# Altium schematic symbol library ass.SchLib: 40 symbols
Pins are listed as number, name and electrical type; pins without a type are passive.

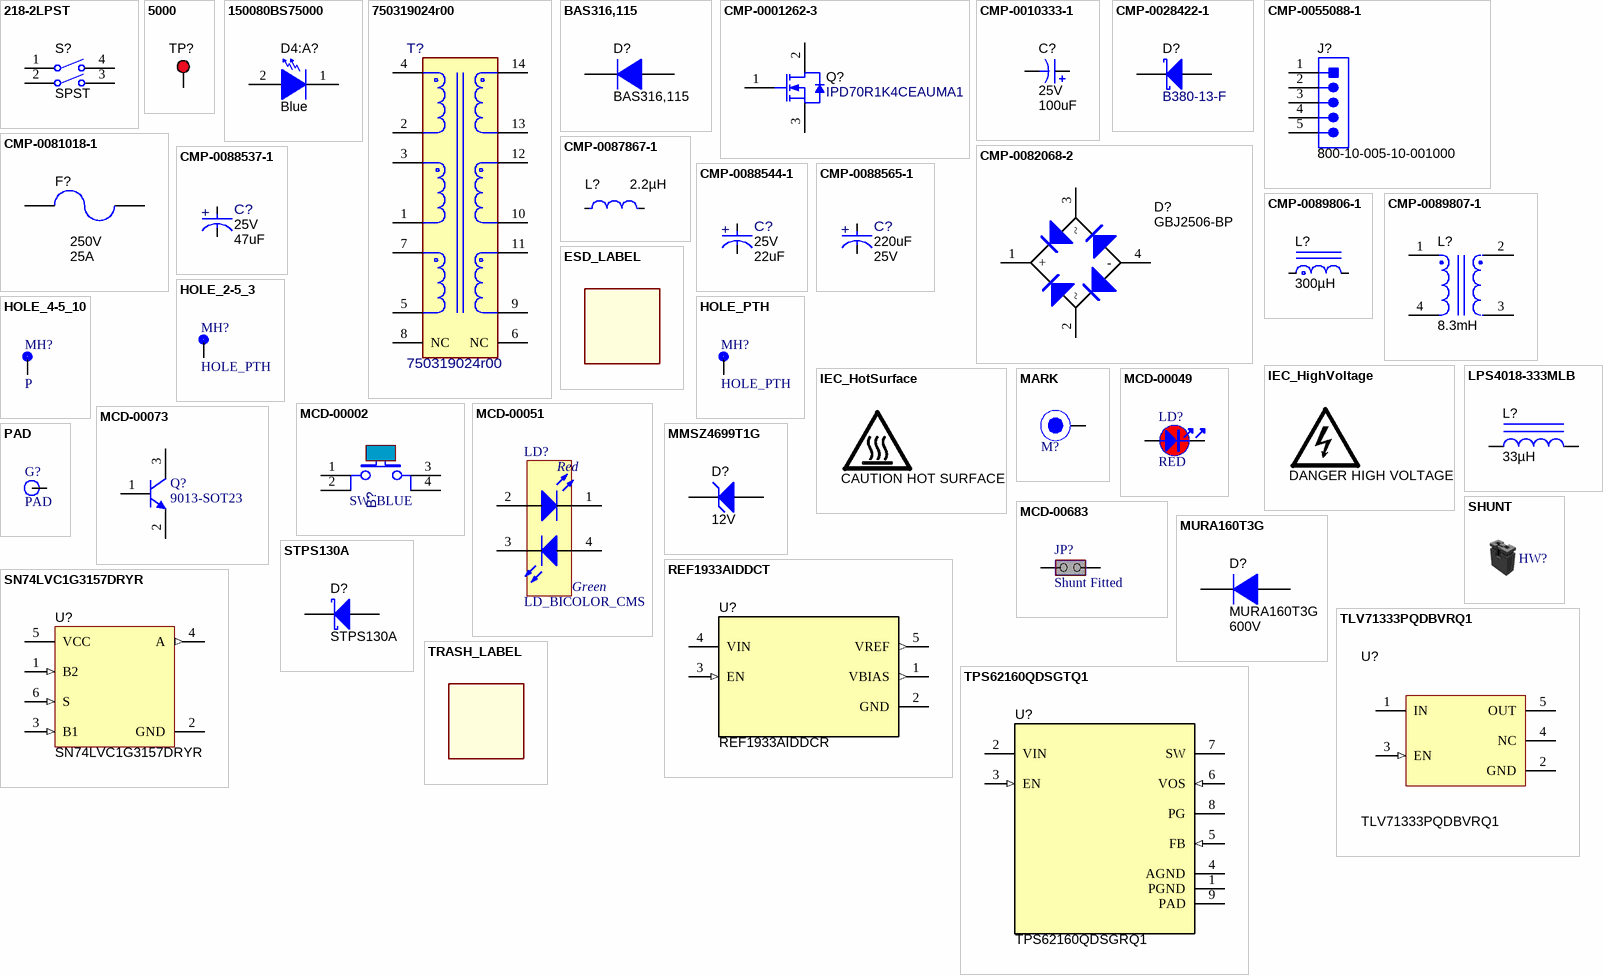
[diagram p0: symbols 218-2LPST to TRASH_LABEL]

## 218-2LPST
designator S?  Circuit: SPST  (hidden comment: 218-2LPST)
Switch, SPST, 2 Pos, 25mA, 24VDC, SMD; Manufacturer: CTS Electrocomponents; SymbolCreator: Altium; VDC_V: 24; SwitchFunction: Off-On; PositionCount: 2; CurrentRating_mA: 25; SymbolVersion: 2015-05-13; PartNumber: 218-2LPST; MountType: SMT; ComponentLink1Description: Datasheet Link; ComponentLink1URL: http://www.ctscorp.com/components/Datasheets/218.pdf; RoHS: Y; Orientation: Top Actuated; CompType: Switch; PackageReference: 3.71x5.8mm; Publisher: Texas Instruments; LatestRevisionDate: 2016-10-04; Supplier 1: Digi-Key; Supplier Part Number 1: CT2182LPST-ND; Supplier 2: Mouser; Supplier Part Number 2: 774-2182LPST
footprint SW_218-2LP
pins: 1, 2, 3, 4

## 5000
designator TP?, comment Vo  (value not drawn)
Test Point, Miniature, Red, TH; PartNumber: 5000; Manufacturer: Keystone; CompType: Test Point Loop; U/M: EA; SymbolVersion: 2008-04-04; PackageReference: Red Miniature Testpoint; RoHS: Y; MountType: TH; ComponentLink1Description: Datasheet Link; ComponentLink1URL: http://www.keyelco.com/userAssets/file/M60-2p60.pdf; Value: Red; Publisher: Texas Instruments; LatestRevisionDate: 2015-08-25; Supplier 1: Digi-Key; Supplier Part Number 1: 36-5000-ND
footprint Keystone5000
pins: 1

## 150080BS75000
designator D4:A?  value Blue  (hidden comment: 150080BS75000)
LED, Blue, SMD; Manufacturer: Wurth Elektronik; Type: InGaN; Vf_V: 3.2; Value2: 3.2V; Io_A: 0.02; Vr_V: 5; Tjmax_C: 85; Power_TotalModule: 0.105; Value1: 0.105W; Angle: 140; U/M: EA; CompType: LED; PartNumber: 150080BS75000; SymbolVersion: 2008-11-06; MountType: SMT; RoHS: Y; PackageReference: LED_0805; Color: Blue; Published: 2008-07-11; Publisher: Texas Instruments; ComponentLink1URL: http://katalog.we-online.de/led/datasheet/150080BS75000.pdf; ComponentLink1Description: Datasheet link; LatestRevisionDate: 2016-09-30; Supplier 1: Digi-Key; Supplier Part Number 1: 732-4982-1-ND; Supplier 2: Mouser; Supplier Part Number 2: 710-150080BS75000; Supplier 3: Farnell; Supplier Part Number 3: 2322075
signal-integrity model Diode
footprint WL-SMCW_Blue_0805
pins: 1 K, 2 A

## 750319024r00
designator T?
TRANSFORMER; Manufacturer: Wurth Electronics; SizeZ_mm: 25.2mm; DCR_ohm: 6.32; Rsec1_ohm: 0.094; Voltage_Isolation_Vrms: 3kV; Ind_H: 2mH; Ns1toNp: 1:1/5.67:1/6.8:1/8.1:1/10:1; Frequency_Fixed: 80kHz; AEC Qualified: No; PackageReference: PTH_TRANSFORMER; Datasheet Path: datasheets/Trans-750319024r00.pdf; RoHS: TRUE; Operating Temperature Range: -40°C to +125°C; Lead Free: Yes; helpURL: https://upverter.com/upn/revision/be9802b5c4ace36f/; PartNumber: 750319024r00
footprint FP-750319024r00_PTH_TRANSFORMER-MFG (Footprint not found)
pins: 1, 2, 3, 4, 5, 6 NC, 7, 8 NC, 9, 10, 11, 12, 13, 14

## BAS316,115
designator D?
Diode, Ultrafast, 100 V, 0.25 A, SOD-323; Manufacturer: NXP Semiconductor; U/M: EA; Vf_V: 1.4; Value: 100V; Value1: 0.25A; Value2: 1.4V; Io_A: 0.25; Vr_V: 100; TJmax_C: 150; SymbolVersion: 2008-12-08; PartNumber: BAS316,115; PackageReference: SOD-323; CompType: Diode; MountType: SMT; Type: Ultrafast; RoHS: Y; Published: 2008-06-26; Publisher: Texas Instruments; LatestRevisionDate: 2014-12-22; ComponentLink1Description: Datasheet link; ComponentLink1URL: http://www.nxp.com/documents/data_sheet/BAS16_SER.pdf; Supplier 1: Digi-Key; Supplier Part Number 1: 568-5003-1-ND; Supplier 2: Farnell; Supplier Part Number 2: 8734275
signal-integrity model Diode
footprint sod-323
pins: 1 K, 2 A

## CMP-0001262-3
designator Q?, comment IPD70R1K4CEAUMA1
MOSFET, N-CH, 750 V, 5.4 A, DPAK; Alternate Manufacturer: None; Manufacturer: Infineon Technologies; SizeX_mm: 9.91; Value: 750V; SizeAreaWB_mm2: 101.7114; Value2: 10.5 nC; SizeArea_mm2: 64.8114; Vgs_V: 20V; ChMode: Enhancement; SizeY_mm: 6.54; AEC Category: Q101; QgTyp_nC: 10.5; ChType: N; SizeZ_mm: 2.29; IdsMax_A: 5.4A; Supplier Part Number 2: 726-IPD70R1K4CEAUMA1; MountType: SMT; ComponentLink1Description: Datasheet link; CompType: MOSFET; ComponentLink1URL: http://www.infineon.com/dgdl/Infineon-IPD70R1K4CE-DS-v02_00-EN.pdf?fileId=5546d462533600a40153a2a2125c7af1; Supplier Part Number 1: IPD70R1K4CEAUMA1CT-ND; Supplier 1: Digi-Key; VdsMax_V: 750V; Supplier 2: Mouser; AEC Qualified: N; PartNumber: IPD70R1K4CEAUMA1; RoHS: Y; PackageReference: DPAK
footprint DPAK (D-PAK, 3-Pads, Body 6.22x6.73mm (max), TO-252AA using nominal STEP model)
pins: 1 G, 2 D, 3 S
1 alternate drawing of the same symbol

## CMP-0010333-1
designator C?, comment VDC_V: 25V  ValueDisplayed: 100uF  (hidden comment: EEU-EB1E101S)
CAP, AL, 100 uF, 25 V, +/- 20%, TH; Manufacturer: Panasonic; TaMin_C: -40°C; Polarized: Y; SizeAreaWB_mm2: 68.89; Value1: Unknown; U/M: EA; Value: 100uF; TaMax_C: 105°C; SizeZ_mm: 11.2; SizeX_mm: 6.3; Cap_Case: Radial 6.3x11.2; SizeArea_mm2: 39.69; CompType: Capacitor; AEC Qualified: N; Cap_F: 100µF; IRMS_A: 95mA; AEC Category: Q200; ComponentLink1URL: http://industrial.panasonic.com/www-data/pdf/ABA0000/ABA0000CE27.pdf; Supplier Part Number 2: 83T7010; Publisher: Texas Instruments; Supplier 2: Newark; Supplier Part Number 3: 667-EEU-EB1E101S; Supplier 3: Mouser; RoHS: Y; MountType: TH; Supplier 1: Digi-Key; PackageReference: 6.3x11.2mm; Tolerance_%: 20%; SizeY_mm: 6.3; Value2: 25V; LatestRevisionDate: 2017-03-09; PartNumber: EEU-EB1E101S; Series: EB; ComponentLink1Description: Datasheet link; AEC Grade: N/A; Supplier Part Number 1: P13476-ND; Technology: AL
footprint CAPPR250W50D630H1120 (PANASONIC)
pins: 1 +, 2 -

## CMP-0028422-1
designator D?, comment B380-13-F
Diode, Schottky, 80 V, 3 A, SMC; Manufacturer: Diodes Inc.; Io_A: 3A; Green_Lifecycle: Active; SizeAreaWB_mm2: 83.2686; Vr_V: 80V; Green_REACh: Passed; TJmax_C: 125°C; U/M: EA; Value: 80V; SizeZ_mm: 2.6; SizeX_mm: 8.13; SizeY_mm: 6.22; Vf_V: 790mV; Value2: 0.79V; SizeArea_mm2: 50.5686; AEC Category: Q101; RJC_CperW: 10; ComponentLink1URL: http://www.diodes.com/datasheets/ds30020.pdf; Supplier Part Number 2: 621-B380-F; Publisher: Texas Instruments; Supplier 2: Mouser; Published: 2008-06-26; RoHS: Y; Value1: 3A; MountType: SMT; Green_EU RoHS-2: Passed; Supplier 1: Digi-Key; Green_EU RoHS: Passed with Exemption; PackageReference: SMC; CompType: Diode; Type: Schottky; LatestRevisionDate: 2017-05-08; PartNumber: B380-13-F; AEC Qualified: ?; ComponentLink1Description: Datasheet link; Supplier Part Number 1: B380-FDICT-ND
footprint SMC (Molded Diode, 2-Leads, Body 6.9x5.8mm, IPC Medium Density, based on OnSemi component dimensions and land patterns)
pins: 1 K, 2 A

## CMP-0055088-1
designator J?, comment 800-10-005-10-001000
Header, 100mil, 5x1, TH; Manufacturer: Mill-Max; CT: FALSE; CNHeader: TRUE; ComponentLink1URL: http://www.mill-max.com/assets/pdfs/054.PDF; Publisher: Texas Instruments; Supplier 1: Digi-Key; CompType: Header; PackageReference: Header, 5x1, 100mil, TH; LatestRevisionDate: 26/05/2017; ClassName: Header; RoHS: Y; Supplier Part Number 1: ED7205-ND; MountType: TH; PartNumber: 800-10-005-10-001000; ComponentLink1Description: Datasheet URL
footprint Mill-Max_800-10-005-10-001000 (Mill-Max)
pins: 1, 2, 3, 4, 5

## CMP-0081018-1
designator F?, comment Irating_A: 25A  VAC_V: 250V  (hidden comment: SF-3812F2500T-2)
Fuse, 25 A, 250 VAC, 100 VDC, SMD; Manufacturer: Bourns Inc.; TaMin_C: -55°C; SizeAreaWB_mm2: 61.952; Interrupt_AC: 100A; Interrupt_DC: 50A; TaMax_C: 125°C; Fuse Speed: Fast; SizeZ_mm: 3.12; SizeX_mm: 10.1; SizeArea_mm2: 31.512; VDC_V: 100V; Fuse Technology: Board Mount; Rtyp_Ohm: 2.15m; MeltingTyp: 668; ComponentLink1URL: https://www.bourns.com/docs/Product-Datasheets/SF-3812F-T.pdf; RoHS: Y; MountType: SMT; PackageReference: 10.1x3.12mm; SizeY_mm: 3.12; CompType: Fuse; PartNumber: SF-3812F2500T-2; ComponentLink1Description: Datasheet URL
footprint Fuse_0463 (SMD, 2-Leads, Body 10.1x3.12mm)
pins: 1, 2

## CMP-0082068-2
designator D?, comment GBJ2506-BP
Diode, P-N-Bridge, 600 V, 25 A, TH; Manufacturer: Micro Commercial Components; AEC Category: Q101; Io_A: 25A; SizeY_mm: 4.6; AEC Qualified: N; SizeZ_mm: 24; Vr_V: 600V; SizeAreaWB_mm2: 211.2; Value: 600V; SizeX_mm: 30; TJmax_C: 150°C; Vf_V: 1.05V; RJC_CperW: 0.6; SizeArea_mm2: 138; MountType: TH; RoHS: Y; PartNumber: GBJ2506-BP; CompType: Diode; Value1: 25A; ComponentLink1URL: http://www.mccsemi.com/up_pdf/GBJ25005-GBJ2510(GBJ).pdf; PackageReference: Diode Bridge, TH; Value2: 1.05V; ComponentLink1Description: Datasheet link; Type: P-N-Bridge
footprint GBJ (Micro Commercial Components)
pins: 1 +, 2 ~, 3 ~, 4 -

## CMP-0087867-1
designator L?, comment Ind_H: 2.2µH  (hidden comment: 74438336022)
2.2µH Shielded Molded Inductor 2.4A 67mOhm Max 2-SMD; Manufacturer: Wurth Electronics; SizeZ_mm: 2mm; Material: Metal Composite; Isat: 4.3A; Symbol Name: SYM-74438336010; DCR_ohm: 0.032; AEC Grade: Grade 1; AEC Qualified: Yes; PackageReference: SMD2; Irms: 2.4A; RoHS: TRUE; PartNumber: 74438336022; ComponentLink1Description: Datasheet; ComponentLink1URL: https://katalog.we-online.de/pbs/datasheet/74438336010.pdf; Technology: Molded
footprint FP-74438336010_SMD2-MFG
pins: 1, 2

## CMP-0088537-1
designator C?, comment VDC_V: 25V  ValueDisplayed: 47uF  (hidden comment: 25ZLG47MEFC6.3X7)
Cap Aluminum 47uF 25V 20% (6.3 X 7mm) Radial 2.5mm 480mA 1000 hr 105°C Bulk; Manufacturer: Rubycon; AEC Qualified: No; Dissipation Factor: 14%; Leakage Current: 35.25uA; Cap_F: 47µF; Life: 1000Hours; SizeZ_mm: 8mm; PackageReference: RADIAL; Supplier 2: Mouser; datasheet: http://www.rubycon.co.jp/en/catalog/e_pdfs/aluminum/e_ZLG.pdf; RoHS: TRUE; Digikey Description: CAP ALUM 47UF 20% 25V RADIAL; ComponentLink1URL: http://www.rubycon.co.jp/en/catalog/e_pdfs/aluminum/e_ZLG.pdf; Operating Temperature Range: -40°C to +105°C; Digikey Part Number: 1189-4172-ND; Lead Free: Yes; Tolerance_%: 20%; Supplier 1: Digikey; ComponentLink1Description: Datasheet; Supplier Part Number 2: 232-25ZLG47MEFC6.3X7; Supplier Part Number 1: 1189-4172-ND; Datasheet Path: datasheets/Cap-25ZLG47MEFC6.3X7.pdf; helpURL: https://upverter.com/upn/revision/d1e3d443faba1285/; PartNumber: 25ZLG47MEFC6.3X7; Mouser Part Number: 232-25ZLG47MEFC6.3X7; IRMS_A: 480mA
footprint FP-25ZLG47MEFC6.3X7_RADIAL-MFG
pins: 1 CATHODE, 2 ANODE
text: +

## CMP-0088544-1
designator C?, comment VDC_V: 25V  ValueDisplayed: 22uF  (hidden comment: UPW1E220MDD)
22uF 25 V dc Aluminium Electrolytic Capacitor, PW Series 2000h 5 (Dia.) x 11mm; Manufacturer: Nichicon; AEC Grade: Grade 2; IRMS_A: 180mA; Dissipation Factor: 14%; Cap_F: 22µF; Leakage Current: 16.5uA; SizeZ_mm: 12.5mm; Life: 2000Hours; AEC Qualified: Yes; Tolerance_%: 20%; helpURL: https://upverter.com/upn/revision/dc22ef000e10bc70/; Lead Free: Yes; Supplier 1: Digikey; Datasheet Path: datasheets/Cap-UPW1E220MDD.pdf; PackageReference: RADIAL; datasheet: https://products.nichicon.co.jp/en/pdf/XJA043/e-upw.pdf; ComponentLink1Description: Datasheet; RoHS: TRUE; Operating Temperature Range: -55°C to +105°C; Supplier Part Number 2: 647-UPW1E220MDD; PartNumber: UPW1E220MDD; Supplier Part Number 1: 493-1811-ND; Mouser Part Number: 647-UPW1E220MDD; Supplier 2: Mouser; Digikey Part Number: 493-1811-ND; Digikey Description: CAP ALUM 22UF 20% 25V RADIAL; ComponentLink1URL: https://products.nichicon.co.jp/en/pdf/XJA043/e-upw.pdf
footprint FP-UPW1E220MDD_RADIAL-MFG
pins: 1 CATHODE, 2 ANODE
text: +

## CMP-0088565-1
designator C?, comment ValueDisplayed: 220uF  VDC_V: 25V  (hidden comment: 25AX220MEFC8X9)
220µF 25V Aluminum Electrolytic Capacitors Radial, Can 2000 Hrs @ 105°C; Manufacturer: Rubycon; SizeZ_mm: 10.5mm; AEC Qualified: No; Tolerance_%: 20%; Leakage Current: 55uA; Life: 2000Hours; Dissipation Factor: 14%; IRMS_A: 1.36A; Cap_F: 220µF; Mouser Part Number: 232-25AX220MEFC8X9; Supplier 2: Mouser; Supplier Part Number 2: 232-25AX220MEFC8X9; ComponentLink1URL: http://www.rubycon.co.jp/en/catalog/e_pdfs/aluminum/e_AX.pdf; Datasheet Path: datasheets/Cap-25AX220MEFC8X9.pdf; RoHS: TRUE; Supplier 1: Digikey; Lead Free: Yes; Digikey Part Number: 1189-2906-ND; Digikey Description: CAP ALUM 220UF 20% 25V RADIAL; Operating Temperature Range: -40°C to +105°C; PackageReference: RADIAL; datasheet: http://www.rubycon.co.jp/en/catalog/e_pdfs/aluminum/e_AX.pdf; PartNumber: 25AX220MEFC8X9; ComponentLink1Description: Datasheet; Supplier Part Number 1: 1189-2906-ND; helpURL: https://upverter.com/upn/revision/a3c110b3ba59c556/
footprint FP-25AX220MEFC8X9_RADIAL-MFG
pins: 1 CATHODE, 2 ANODE
text: +

## CMP-0089806-1
designator L?, comment Ind_H: 300µH  (hidden comment: YXCH270060)
CHOKE, 300uH±10%, 75.0mΩ MAX; Manufacturer: Yaxin Development; Tolerance_%: 10%; AEC Qualified: No; DCR_ohm: 0.075; SizeZ_mm: 30.5mm; Test Frequency: 100kHz; Technology: Wirewound; PackageReference: PTH_31MM0_16MM7; Operating Temperature Range: to; helpURL: https://upverter.com/upn/revision/7ee20d683e3d8f7f/; Lead Free: Yes; Part Number: YXCH270060; RoHS: TRUE; Datasheet Path: datasheets/Ind-YX77894A7.pdf; PartNumber: YXCH270060
footprint FP-YX77894A7_PTH_31MM0_16MM7-MFG
pins: 1, 2

## CMP-0089807-1
designator L?, comment Ind_H: 8.3mH  (hidden comment: YXBCM020013007C)
8.3mH @ 10kHz 2 Line Common Mode Choke Through Hole DCR 12mOhm; Manufacturer: Yaxing Development; SizeZ_mm: 23.5mm; DCR_ohm: 0.012; AEC Qualified: No; Tolerance_%: 30%; Operating Temperature Range: to; Part Number: YXBCM020013007C; PackageReference: PTH_CHOKE_12MM5_25MM0; PartNumber: YXBCM020013007C; helpURL: https://upverter.com/upn/revision/7b912fc848039549/; Datasheet Path: datasheets/Ind-YXBCM020013007C.pdf; Technology: Wirewound; Test Frequency: 10kHz; Lead Free: Yes; RoHS: TRUE
footprint FP-YXBCM020013007C_PTH_CHOKE_12MM5_25MM0-MFG
pins: 1, 2, 3, 4

## ESD_LABEL
designator Label?  (value not drawn)
静电标志; Designed_By: Artur Bielinski; Design_Date: 2012-08-22
footprint ESD

## HOLE_2-5_3
designator MH?, comment HOLE_PTH
定位孔; Code: -; CompType: -; DistributorCode: -; Manufacturer: -; Package: -; A_Code: -; A_ComType: -; A_Manufacturer: -
footprint Pad_2-5_3
pins: 1

## HOLE_4-5_10
designator MH?, comment P
电源座孔; Code: -; CompType: -; DistributorCode: -; Manufacturer: -; Package: -; A_Code: -; A_ComType: -; A_Manufacturer: -
footprint 4_5-10mm
pins: 1

## HOLE_PTH
designator MH?
定位孔; Code: -; CompType: -; DistributorCode: -; Manufacturer: -; Package: -; A_Code: -; A_ComType: -; A_Manufacturer: -
footprint HOLE_3_8
pins: 1

## IEC_HighVoltage
designator LOGO?, comment DANGER HIGH VOLTAGE  (no BOM)
IEC 61010-1 High Voltage Warning; Library Reference: IEC_HighVoltage; SymbolCreator: a0412235; Publisher: Texas Instruments; SymbolVersion: 2011-08-22; Published: 2009-03-03; Lib Reference: IEC_HighVoltage; LatestRevisionDate: 2017-07-06; PartNumber: DANGER HIGH VOLTAGE
footprint IEC_HighVoltage_Small

## IEC_HotSurface
designator LOGO?, comment CAUTION HOT SURFACE  (no BOM)
IEC 61010-1 Hot Surface Warning; Library Reference: IEC_HotSurface; SymbolCreator: a0412235; Publisher: Texas Instruments; SymbolVersion: 2011-08-22; Published: 2009-03-03; Lib Reference: IEC_HotSurface; LatestRevisionDate: 2017-07-06; PartNumber: CAUTION HOT SURFACE
footprint IEC_HotSurface_Small

## LPS4018-333MLB
designator L?  ValueDisplayed: 33µH  (hidden comment: LPS4018-333MLB)
Inductor, Shielded Drum Core, Ferrite, 33 µH, 0.68 A, 0.42 ohm, SMD; Manufacturer: Coilcraft; Value: 33uH; Ind_H: 33.0E-6; Imax_A: 0.68; Irms: 0.8A @ 40C rise; Isat: 0.68A @ 30% inductance drop; DCR_ohm: 0.42; Value2: 0.68A; SizeAreaWB_mm2: 24.01; SizeArea_mm2: 15.21; SizeX_mm: 3.9; SizeZ_mm: 1.7; AEC Category: Q200; Green_Lifecycle: Not Set; Green_REACh: Incomplete; SymbolVersion: 2008-07-23; CompType: Inductor; PartNumber: LPS4018-333MLB; Value1: 0.42 ohm; Technology: Shielded Drum Core; MountType: SMT; Material: Ferrite; PackageReference: LPS4018; Published: 2008-06-26; Publisher: Texas Instruments; LatestRevisionDate: 2017-05-12; ComponentLink1Description: Datasheet link; ComponentLink1URL: http://www.coilcraft.com/pdfs/lps4018.pdf; RoHS: Y; SizeY_mm: 3.9; AEC Qualified: ?; Green_EU RoHS: Incomplete; Green_EU RoHS-2: Incomplete
signal-integrity model Inductor
simulation model Inductor
footprint LPS4018
pins: 1, 2

## MARK
designator M?  (value not drawn)
MAIK点; Code: -; CompType: -; DistributorCode: -; Manufacturer: -; Package: -; A_Code: -; A_ComType: -; A_Manufacturer: -
footprint MARK
pins: 1 TP

## MCD-00002
designator B?  value SW_BLUE
Non-Open Push-Button 0.1A 24V; Internal_Part_Number: MCD-00002; Manufacturer_Part_Number: TD0341X-G01-BLU; Manufacturer: WEALTHMETAL; Part_Type: Misc; Provided_By: Subcon; Initial_Board_Reference: MB1274; ECCN_US: n/a; ECCN_EU: n/a; ComponentLink1Description: Wealthmetal_Tact-Switch_TD0341.pdf; Status: Released; ComponentLink1URL: http://tunmcdsvn.tun.st.com/Component_Datasheet_Library/Trunk/Misc/Wealthmetal_Tact-Switch_TD0341; Order_Code_Farnell: 535-930
footprint SWI_WEALTHMETAL_TD-0341_4P_BLUE
pins: 1, 2, 3, 4

## MCD-00049
designator LD?  value RED
LED, Red, 0603; Internal_Part_Number: MCD-00049; Manufacturer_Part_Number: 19-213-R6C-AP1Q2B/3T; Manufacturer: EVERLIGHT; Part_Type: Display; ECCN_US: EAR99; ECCN_EU: NEC; Provided_By: Subcon; Initial_Board_Reference: MB1274; ComponentLink1Description: Everlight_SMD-LED-RED_19-213-R6C-AP1Q2B-3T-V3.doc.pdf; Status: Released; ComponentLink1URL: http://tunmcdsvn.tun.st.com/Component_Datasheet_Library/Trunk/display/Everlight_SMD-LED-RED_19-213-R6C-AP1Q2B-3T-V3.doc; Package: LED 0603
footprint LED_0603_RED
pins: 1, 2
2 alternate drawings of the same symbol

## MCD-00051
designator LD?  value LD_BICOLOR_CMS
LED Bicolor; Internal_Part_Number: MCD-00051; Part_Type: Display; Manufacturer_Part_Number: HSMF-A201-A00J1; Manufacturer: AVAGO TECHNOLOGIES; Alternate_Manufacturer_Part_Number: LE-RGW35280; Alternate_Manufacturer: EVERLUCK; ECCN_US: EAR99; ECCN_EU: NEC; Provided_By: Subcon; Initial_Board_Reference: MB1274; Status: Released; ComponentLink1Description: Avago_LED-SMC_HSMx-A2xx-02Feb2012.pdf; ComponentLink1URL: http://tunmcdsvn.tun.st.com/Component_Datasheet_Library/Trunk/display/Avago_LED-SMC_HSMx-A2xx-02Feb2012
footprint LED_BI-GR_HSMF-A201-A00J1
pins: 1 RED_cathode, 2 Red_anode, 3 YellowGreen_cathode, 4 YellowGreen_anode
text: Red; Green

## MCD-00073
designator Q?  value 9013-SOT23
NPN Bipolar Transistor; Internal_Part_Number: MCD-00073; Part_Type: IC; Manufacturer_Part_Number: BSR14; Manufacturer: NXP; ECCN_US: EAR99; ECCN_EU: NEC; Provided_By: Subcon; Initial_Board_Reference: MB1274; Revision: *; Status: Released; ComponentLink1Description: NXP_Transistor_BSR14.pdf; ComponentLink1URL: http://tunmcdsvn.tun.st.com/Component_Datasheet_Library/Trunk/IC/NXP_Transistor_BSR14
footprint NPN_SOT23
pins: 1 B, 2 E, 3 C

## MCD-00683
designator JP?, comment Shunt Fitted
Header, 2x1, 2,54mm, VR, TH, Height 5.84mm/2.54mm - Shunt Fitted by default; Internal_Part_Number: MCD-00683; Part_Type: Connector; Manufacturer_Part_Number: TSW-102-07-x-S; Manufacturer: SAMTEC; Provided_By: Subcon; Initial_Board_Reference: MB1331; Status: Released; ComponentLink1Description: Samtec_connector_TSW-HTSW-series.pdf; ComponentLink1URL: http://tunmcdsvn.tun.st.com/Component_Datasheet_Library/Trunk/Connectors/Samtec_TSW-HTSW-series; ECCN_US: n/a; ECCN_EU: n/a; Value: Shunt Fitted
footprint CON_SAMTEC_TSW-102-07-G-S
pins: 1 COMMON, 2 NO

## MMSZ4699T1G
designator D?  value 12V  (hidden comment: MMSZ4699T1G)
Diode, Zener, 12 V, 500 mW, SOD-123; Manufacturer: ON Semiconductor; SymbolCreator: a0412235; U/M: EA; Power_W: 0.5; Vz_V: 12; Value1: 0.5W; RJA_CperW: 340; SymbolVersion: 2010-08-25; PartNumber: MMSZ4699T1G; PackageReference: SOD-123; CompType: Zener; Vr_V: N/A; MountType: SMT; RoHS: Y; ComponentLink1Description: Datasheet link; ComponentLink1URL: http://www.onsemi.com/pub_link/Collateral/MMSZ4678T1-D.PDF; Published: 2008-10-08; Publisher: Texas Instruments; LatestRevisionDate: 2014-12-10; LatestRevisionNote: Updated Supplier Data; Supplier 1: Digi-Key; Supplier Part Number 1: MMSZ4699T1GOSCT-ND; Supplier 2: Mouser; Supplier Part Number 2: 863-MMSZ4699T1G; Supplier 3: Farnell; Supplier Part Number 3: 1651593
signal-integrity model Diode
footprint SOD-123
pins: 1 K, 2 A

## MURA160T3G
designator D?  value 600V
Diode, Ultrafast, 600V, 1A, SMA; Manufacturer: ON Semiconductor; U/M: EA; Vf_V: 1.05; Value2: 1.05V; Io_A: 1; Vr_V: 600; TJmax_C: 175; SymbolVersion: 2008-12-08; PartNumber: MURA160T3G; PackageReference: SMA; CompType: Diode; Value1: 1A; MountType: SMT; Type: Ultrafast; RoHS: Y; Published: 2008-06-26; Publisher: Texas Instruments; LatestRevisionDate: 2014-01-24; ComponentLink1Description: Datasheet link; ComponentLink1URL: http://www.onsemi.com/pub_link/Collateral/MURA160T3-D.PDF; Supplier 1: Digi-Key; Supplier Part Number 1: MURA160T3GOSCT-ND; Supplier 2: Mouser; Supplier Part Number 2: 863-MURA160T3G; Supplier 3: Farnell; Supplier Part Number 3: 1459149
footprint SMA (Molded Diode, 2-Leads, Body 4.3x2.6mm, IPC Medium Density, based on OnSemi component dimensions and land pattern)
pins: 1 K, 2 A

## PAD
designator G?
地焊盘
footprint P3X2
pins: 1

## REF1933AIDDCT
designator U?, comment REF1933AIDDCR
Dual Output Vref and Vref/2 Voltage Reference, DDC0005A (SOT-23-T-5); Manufacturer: Texas Instruments; Alternate PartNumber: REF1933AIDDCT; SizeAreaWB_mm2: 14.82; SizeArea_mm2: 8.12; SizeZ_mm: 1.1; SizeY_mm: 2.9; U/M: EA; CompType: IC; SizeX_mm: 2.8; ComponentLink1Description: Datasheet Link; RoHS: Y; PackageReference: DDC0005A; Publisher: Texas Instruments; PackageDescription: SOT-23-T-5; Alternate Manufacturer: Texas Instruments; ComponentLink1URL: http://www.ti.com/lit/ds/symlink/ref1933.pdf; LatestRevisionDate: 2017-06-09; MountType: SMT; PartNumber: REF1933AIDDCR
footprint DDC0005A_L
pins: 1 VBIAS (out), 2 GND (power), 3 EN (in), 4 VIN (power), 5 VREF (out)

## SHUNT
designator HW?  (mechanical)
SHUNT 2.54mm BLACK; Internal_Part_Number: MCD-00043; Manufacturer_Part_Number: SNT-100-BK-G; Manufacturer: SAMTEC; Part_Type: Mechanical; Provided_By: Subcon; Initial_Board_Reference: MB1274; ECCN_US: n/a; ECCN_EU: n/a; ComponentLink1Description: Samtec_Shunt_Jumper_SNT100.pdf; Status: Released; ComponentLink1URL: http://tunmcdsvn.tun.st.com/Component_Datasheet_Library/Trunk/Connectors/Samtec_Shunt_Jumper_SNT100

## SN74LVC1G3157DRYR
designator U?
SINGLE-POLE DOUBLE-THROW ANALOG SWITCH, DRY0006A; Manufacturer: Texas Instruments; SymbolCreator: a0799628; CompType: IC; U/M: EA; SymbolVersion: 2014-05-28; PartNumber: SN74LVC1G3157DRYR; PackageReference: DRY0006A; MountType: SMT; ComponentLink1Description: Datasheet Link; ComponentLink1URL: http://www.ti.com/lit/ds/symlink/sn74lvc1g3157.pdf; RoHS: Y; Publisher: Texas Instruments; LatestRevisionDate: 2015-12-08; Alternate Manufacturer: Texas Instruments
footprint DRY0006A
pins: 1 B2 (in), 2 GND (power), 3 B1 (in), 4 A (out), 5 VCC (power), 6 S (in)

## STPS130A
designator D?
Diode, Schottky, 30 V, 1 A, SMA; Manufacturer: STMicroelectronics; U/M: EA; Vf_V: 0.46; Value: 30V; Value1: 1A; Value2: 0.46V; Io_A: 1; Vr_V: 30; TJmax_C: 150; AEC Category: Q101; CompType: Diode; SymbolVersion: 2008-12-08; PartNumber: STPS130A; PackageReference: SMA; MountType: SMT; Type: Schottky; RoHS: Y; Published: 2008-06-26; Publisher: Texas Instruments; LatestRevisionDate: 2015-10-13; ComponentLink1Description: Datasheet link; ComponentLink1URL: http://www.st.com/web/en/resource/technical/document/datasheet/CD00000992.pdf; Supplier 1: Digi-Key; Supplier Part Number 1: 497-3755-2-ND; Supplier 2: Mouser; Supplier Part Number 2: 511-STPS130A; Supplier 3: Newark; Supplier Part Number 3: 89K1580; AEC Qualified: ?
signal-integrity model Diode
footprint SMA
pins: 1 K, 2 A

## TLV71333PQDBVRQ1
designator U?
Capacitor-Free, 150-mA, Low-Dropout Regulator with Foldback Current Limit for Portable Devices, DBV0005A; Manufacturer: Texas Instruments; SymbolCreator: Altium; SizeArea_mm2: 8.12; SizeAreaWB_mm2: 14.82; SizeX_mm: 2.8; SizeY_mm: 2.9; SizeZ_mm: 1.45; CompType: IC; U/M: EA; SymbolVersion: 2015-10-16; PartNumber: TLV71333PQDBVRQ1; PackageReference: DBV0005A; PackageDescription: SOT-5; MountType: SMT; ComponentLink1Description: Datasheet Link; ComponentLink1URL: http://www.ti.com/lit/ds/symlink/tlv713p-q1.pdf; RoHS: Y; Publisher: Texas Instruments; LatestRevisionDate: 2016-06-20; Alternate Manufacturer: Texas Instruments
footprint DBV0005A_N
pins: 1 IN (power), 2 GND (power), 3 EN (in), 4 NC, 5 OUT (power)
1 alternate drawing of the same symbol

## TPS62160QDSGTQ1
designator U?, comment TPS62160QDSGRQ1
3V-17V 1A Automotive Step-Down Converters in 2x2SON, DSG0008A (WSON-8); Alternate PartNumber: TPS62160QDSGTQ1; Manufacturer: Texas Instruments; SizeZ_mm: 0.8; SizeX_mm: 2.0; SizeArea_mm2: 4.0; CompType: IC; U/M: EA; SizeAreaWB_mm2: 9.0; ComponentLink1URL: http://www.ti.com/lit/ds/symlink/tps62160-q1.pdf; Publisher: Texas Instruments; PackageDescription: WSON-8; SizeY_mm: 2.0; PackageReference: DSG0008A; LatestRevisionDate: 2017-06-09; RoHS: Y; MountType: SMT; Alternate Manufacturer: Texas Instruments; ComponentLink1Description: Datasheet Link; PartNumber: TPS62160QDSGRQ1
footprint DSG0008A (SON, 8-Leads, Body 2x2mm, Pitch 0.5mm, Thermal Pad 1.6x0.9mm, TI Recommended)
pins: 1 PGND (power) "Power ground", 2 VIN (power) "Supply voltage", 3 EN (in) "Enable input (High = enabled, Low = disabled)", 4 AGND (power) "Analog Ground", 5 FB (in) "Voltage feedback of adjustable version. Connect resistive voltage divider to this pin. It is recommended to connect FB to AGND on fixed output voltage versions for improved thermal performance.", 6 VOS (in) "Output voltage sense pin and connection for the control loop circuitry.", 7 SW (power) "Switch node, which is connected to the internal MOSFET switches. Connect inductor between SW and output capacitor.", 8 PG (hiz) "Output power good (High = VOUT ready, Low = VOUT below nominal regulation) ; open drain (requires pull-up resistor; goes high impedance, when device is switched off)", 9 PAD (power) "Must be connected to AGND. Must be soldered to achieve appropriate power dissipation and mechanical reliability."

## TRASH_LABEL
designator LABEL?  (value not drawn)
垃圾桶标志; Code: -; CompType: -; DistributorCode: -; Manufacturer: -; Package: -
footprint TRASH